# Altium schematic symbol library RaspberryPI GPIO.SchLib: 1 symbol
Pins are listed as number, name and electrical type; pins without a type are passive.

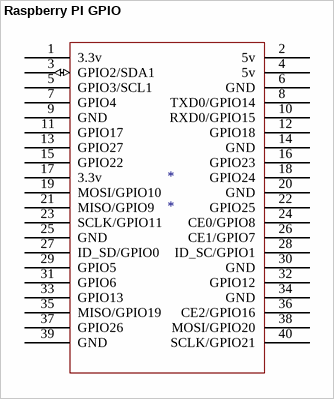
[diagram p0: symbol Raspberry PI GPIO]

## Raspberry PI GPIO
designator *
pins: 1 3.3v (power), 2 5v (power), 3 GPIO2/SDA1 (io), 4 5v (power), 5 GPIO3/SCL1, 6 GND, 7 GPIO4, 8 TXD0/GPIO14, 9 GND, 10 RXD0/GPIO15, 11 GPIO17, 12 GPIO18, 13 GPIO27, 14 GND, 15 GPIO22, 16 GPIO23, 17 3.3v, 18 GPIO24, 19 MOSI/GPIO10, 20 GND, 21 MISO/GPIO9, 22 GPIO25, 23 SCLK/GPIO11, 24 CE0/GPIO8, 25 GND, 26 CE1/GPIO7, 27 ID_SD/GPIO0, 28 ID_SC/GPIO1, 29 GPIO5, 30 GND, 31 GPIO6, 32 GPIO12, 33 GPIO13, 34 GND, 35 MISO/GPIO19, 36 CE2/GPIO16, 37 GPIO26, 38 MOSI/GPIO20, 39 GND, 40 SCLK/GPIO21